# EAGLE library part 68HC908QT4 (library MOTOROLA)
68HC908QT4 µController von Motorola
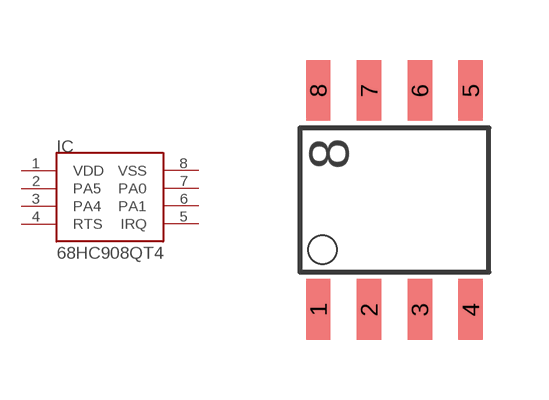
[diagram p57: symbol with the pads of SO-8; footprint SO-8]

Designator prefix IC

## 68HC908QT4CDW  [SO-8]
1  VDD
2  PA5
3  PA4
4  RTS
5  IRQ
6  PA1
7  PA0
8  VSS

## Footprint SO-8 (pad centres in mm)
smd 0.61 x 1.524: 1 -1.27,-2.743; 2 0,-2.743; 3 1.27,-2.743; 4 2.54,-2.743; 5 2.54,2.743; 6 1.27,2.743; 7 0,2.743; 8 -1.27,2.743